# Altium schematic symbol library LMZ10500SHE.SchLib: 1 symbol
Pins are listed as number, name and electrical type; pins without a type are passive.

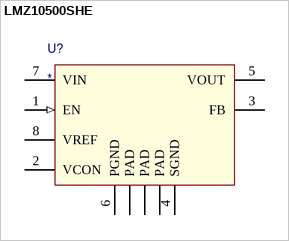
[diagram p0: symbol LMZ10500SHE]

## LMZ10500SHE
designator U?
IC MODULE DC-DC NANO 650MA 8PIN
pins: 0 PAD, 1 EN (in), 1 PAD, 2 VCON, 2 PAD, 3 FB, 4 SGND (power), 5 VOUT (power), 6 PGND (power), 7 VIN (power), 8 VREF
1 alternate drawing of the same symbol